# EAGLE library part LT1073 (library nixie)
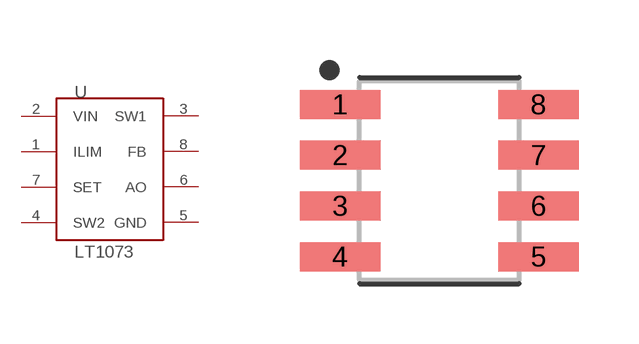
[diagram p0: symbol with the pads of SOIC127P599X175-8; footprint SOIC127P599X175-8]

Designator prefix -

## LT1073  [SOIC127P599X175-8]
1  ILIM
2  VIN
3  SW1
4  SW2
5  GND
6  AO
7  SET
8  FB

## Footprint SOIC127P599X175-8 (pad centres in mm)
8-SOIC, 1.27 mm pitch, 5.99 mm span, 4.90 X 3.90 X 1.75 mm body 8-pin SOIC package with 1.27 mm pitch, 5.99 mm span with body size 4.90 X 3.90 X 1.75 mm
smd 2.021 x 0.726: 1 -2.482,1.905; 2 -2.482,0.635; 3 -2.482,-0.635; 4 -2.482,-1.905; 5 2.482,-1.905; 6 2.482,-0.635; 7 2.482,0.635; 8 2.482,1.905